# Altium footprint library HTSSOP-20_0.PcbLib: 1 footprints
Each footprint in its own frame and in the unit in brackets; x right, y up, seen from the top. Pads: shape width x height; smd on the part's side, far side on the other; paste and mask are expansions set on the pad; w line width, h text height; cw(c..) or ccw(c..) is an arc to the next point about the centre after c.
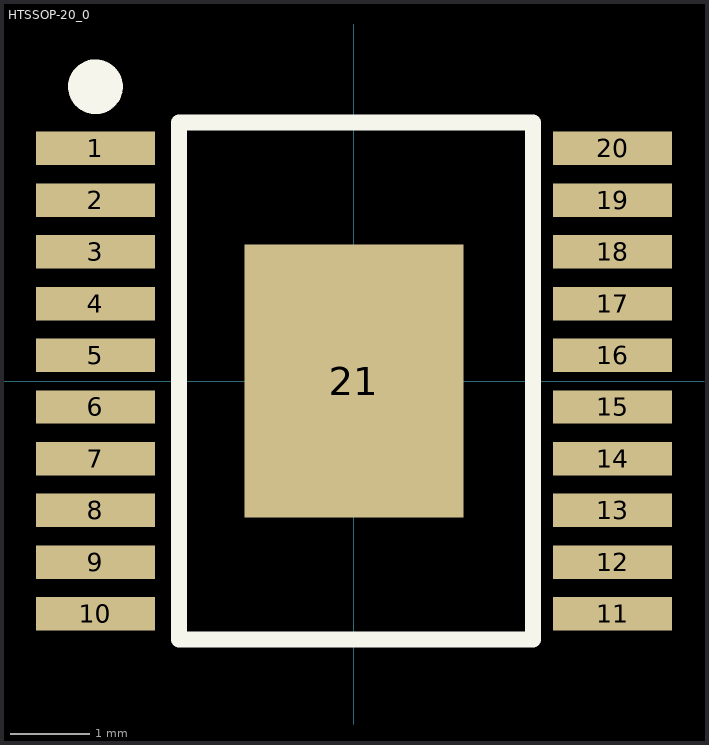
[diagram p0: the footprint, top view; thin cyan lines are the x and y axes]

## HTSSOP-20_0 [mm]
pads (21):
  rect 1.5x0.42 smd mask+0.05: 1(-3.25,2.925) 2(-3.25,2.275) 3(-3.25,1.625) 4(-3.25,0.975) 5(-3.25,0.325) 6(-3.25,-0.325) 7(-3.25,-0.975) 8(-3.25,-1.625) 9(-3.25,-2.275) 10(-3.25,-2.925) 11(3.25,-2.925) 12(3.25,-2.275) 13(3.25,-1.625) 14(3.25,-0.975) 15(3.25,-0.325) 16(3.25,0.325) 17(3.25,0.975) 18(3.25,1.625) 19(3.25,2.275) 20(3.25,2.925)
  rect 2.75x3.43 smd: 21(0,0)
Top Overlay:
  lines w0.2: -2.2,-3.25 -2.2,3.25 2.25,3.25 2.25,-3.25 -2.2,-3.25
  lines w0.381: -3.096,3.702 cw(c-3.25,3.7) -3.096,3.708
3D body: height 1.2, standoff 0, extent -2.2,-3.25 2.25,3.25